# EAGLE library part RR_6X_A (library #PaJa_30)
Odporova sit - 6x - spol. vyvod
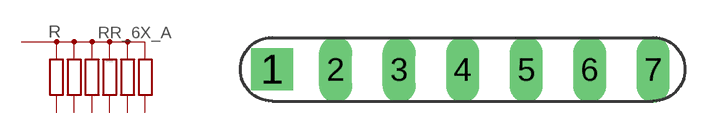
[diagram p31: symbol with the pads of RR_6X_A; footprint RR_6X_A]

Designator prefix R

## RR_6X_A  [RR_6X_A]
1  R  pas
2  R1  pas
3  R2  pas
4  R3  pas
5  R4  pas
6  R5  pas
7  R6  pas

## Footprint RR_6X_A (pad centres in mm)
drill 0.813 pad 1.676 square: 1 -7.62,0
drill 0.813 pad 1.27 long: 2 -5.08,0; 3 -2.54,0; 4 0,0; 5 2.54,0; 6 5.08,0; 7 7.62,0